# EAGLE library part FE13-2 (library BoneCapeParts)
FEMALE HEADER
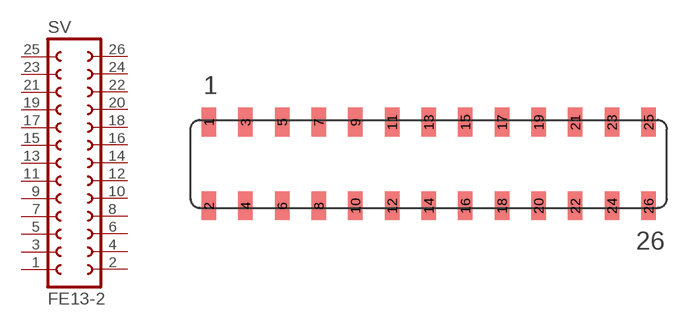
[diagram p11: symbol with the pads of FE13-2; footprint FE13-2]

Designator prefix SV

## FE13-2  [FE13-2]
1  1  pas
2  2  pas
3  3  pas
4  4  pas
5  5  pas
6  6  pas
7  7  pas
8  8  pas
9  9  pas
10  10  pas
11  11  pas
12  12  pas
13  13  pas
14  14  pas
15  15  pas
16  16  pas
17  17  pas
18  18  pas
19  19  pas
20  20  pas
21  21  pas
22  22  pas
23  23  pas
24  24  pas
25  25  pas
26  26  pas

## Footprint FE13-2 (pad centres in mm)
FEMALE HEADER
smd 1 x 2: 1 -15.24,2.9; 2 -15.24,-2.9; 3 -12.7,2.9; 4 -12.7,-2.9; 5 -10.16,2.9; 6 -10.16,-2.9; 7 -7.62,2.9; 8 -7.62,-2.9; 9 -5.08,2.9; 10 -5.08,-2.9; 11 -2.54,2.9; 12 -2.54,-2.9; 13 0,2.9; 14 0,-2.9; 15 2.54,2.9; 16 2.54,-2.9; 17 5.08,2.9; 18 5.08,-2.9; 19 7.62,2.9; 20 7.62,-2.9; 21 10.16,2.9; 22 10.16,-2.9; 23 12.7,2.9; 24 12.7,-2.9; 25 15.24,2.9; 26 15.24,-2.9